# Altium footprint library PcbLib1.PcbLib: 5 footprints
Each footprint in its own frame and in the unit in brackets; x right, y up, seen from the top. Pads: shape width x height; smd on the part's side, far side on the other; paste and mask are expansions set on the pad; w line width, h text height; cw(c..) or ccw(c..) is an arc to the next point about the centre after c.
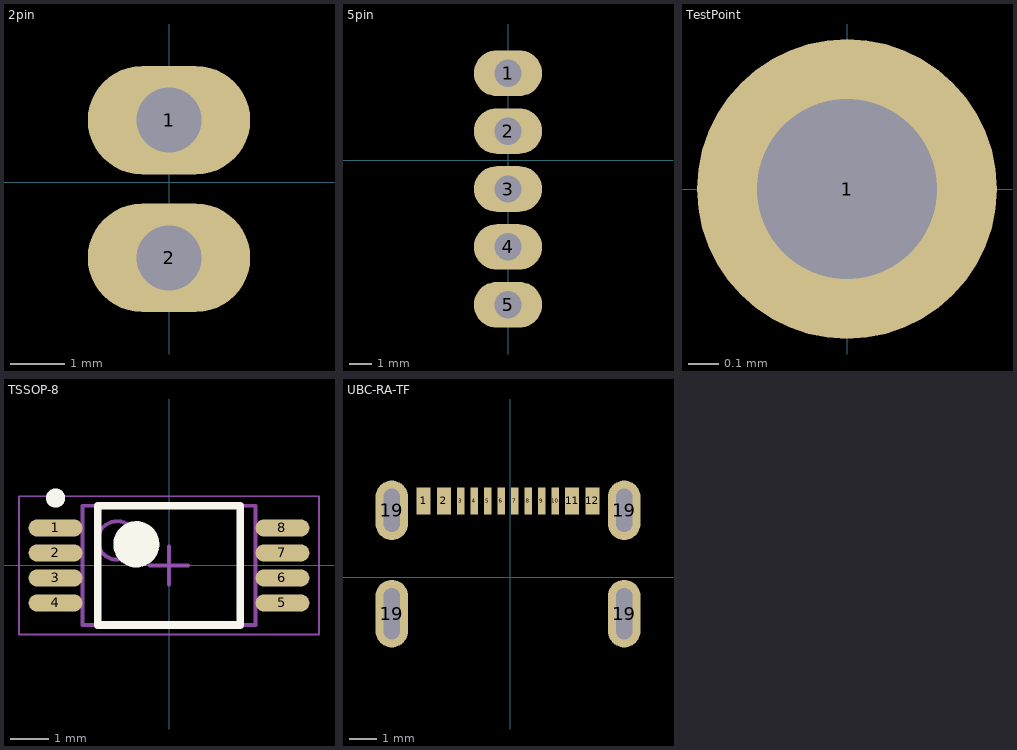
[diagram p0: the footprints below, top view; thin cyan lines are the x and y axes]

## 2pin [mm]
pads (2):
  oval 3x2 hole 1.2: 1(0,1.143) 2(0,-1.397)

## 5pin [mm]
pads (5):
  oval 3x2 hole 1.2: 1(0,3.81) 2(0,1.27) 3(0,-1.27) 4(0,-3.81) 5(0,-6.35)

## TestPoint [mm]
pads (1):
  round 1 hole 0.6: 1(0,0)

## TSSOP-8 [mm]
height 1.2
pads (8):
  oval 1.4x0.45 smd: 1(-2.95,0.975) 2(-2.95,0.325) 3(-2.95,-0.325) 4(-2.95,-0.975) 5(2.95,-0.975) 6(2.95,-0.325) 7(2.95,0.325) 8(2.95,0.975)
Top Overlay:
  circle w0.6: c-0.85,0.55 r0.3
  circle w0.25: c-2.95,1.75 r0.125
  lines w0.2: -1.85,-1.55 1.85,-1.55 1.85,1.55 -1.85,1.55 -1.85,-1.55
Mechanical 13:
  circle w0.1: c-1.35,0.65 r0.5
  lines w0.1: -2.25,-1.55 2.25,-1.55 2.25,1.55 -2.25,1.55 -2.25,-1.55
Mechanical 15:
  lines w0.05: -3.9,-1.8 3.9,-1.8 3.9,1.8 -3.9,1.8 -3.9,-1.8
  lines w0.1: -0.5,0 0.5,0 ; 0,-0.5 0,0.5
3D body "TSSOP-8.step": height 1.2, standoff 0, extent -3.2,-1.55 3.2,1.55

## UBC-RA-TF [mm]
pads (16):
  rect 0.52x1 smd: 1(-3.2,2.825) 2(-2.45,2.825) 11(2.3,2.825) 12(3.05,2.825)
  rect 0.27x1 smd: 3(-1.825,2.825) 4(-1.325,2.825) 5(-0.825,2.825) 6(-0.325,2.825) 7(0.175,2.825) 8(0.675,2.825) 9(1.175,2.825) 10(1.675,2.825)
  oval 1.2x2.5 hole 0.6 slot 1.9 at 90 deg: 19(-4.375,-1.35) 19(4.225,-1.35)
  oval 1.2x2.2 hole 0.6 slot 1.6 at 90 deg: 19(-4.375,2.475) 19(4.225,2.475)
3D body "USB Type C Port (SMD Type).STEP": height 3.61, standoff -0.6, extent -4.495,-4.625 4.445,3.275